# Altium integrated library FCR7350N.IntLib: 2 symbols
Pins are listed as number, name and electrical type; pins without a type are passive.

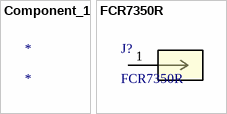
[diagram p0: symbols Component_1 to FCR7350R]

## Component_1
designator *

## FCR7350R
designator J?
No Description Available; Mfr_Name: Cliff; Copyright: Copyright (C) 2022 Ultra Librarian. All rights reserved.; Manufacturer_Part_Number: FCR7350R; RefDes: RefDes; Type: DEV
footprint CONN1_FCR7350R_CLF
pins: 1